# Altium schematic symbol library Transistors.SchLib: 5 symbols
Pins are listed as number, name and electrical type; pins without a type are passive.

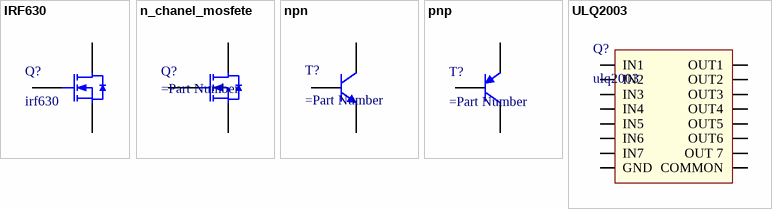
[diagram p0: symbols IRF630 to ULQ2003]

## IRF630
designator Q?, comment irf630
N-канальный полевой транзистор
footprint irf630 (TO-220)
pins: 1 G, 2 D, 3 S

## n_chanel_mosfete
designator Q?
N канальный мосфит
pins: 1 G, 2 D, 3 S

## npn
designator T?
pins: 1 Base, 2 Emitter, 3 Collector

## pnp
designator T?
pins: 1 C, 2 B, 3 E

## ULQ2003
designator Q?, comment ulq2003
сборка дарлингтона npn
footprint ulq2003_dip (Footprint not found)
pins: 1 IN1, 2 IN2, 3 IN3, 4 IN4, 5 IN5, 6 IN6, 7 IN7, 8 GND, 9 COMMON, 10 OUT 7, 11 OUT6, 12 OUT5, 13 OUT4, 14 OUT3, 15 OUT2, 16 OUT1